# Altium schematic symbol library ARCOM_Capacitors.SchLib: 225 symbols (part 3 of 4)
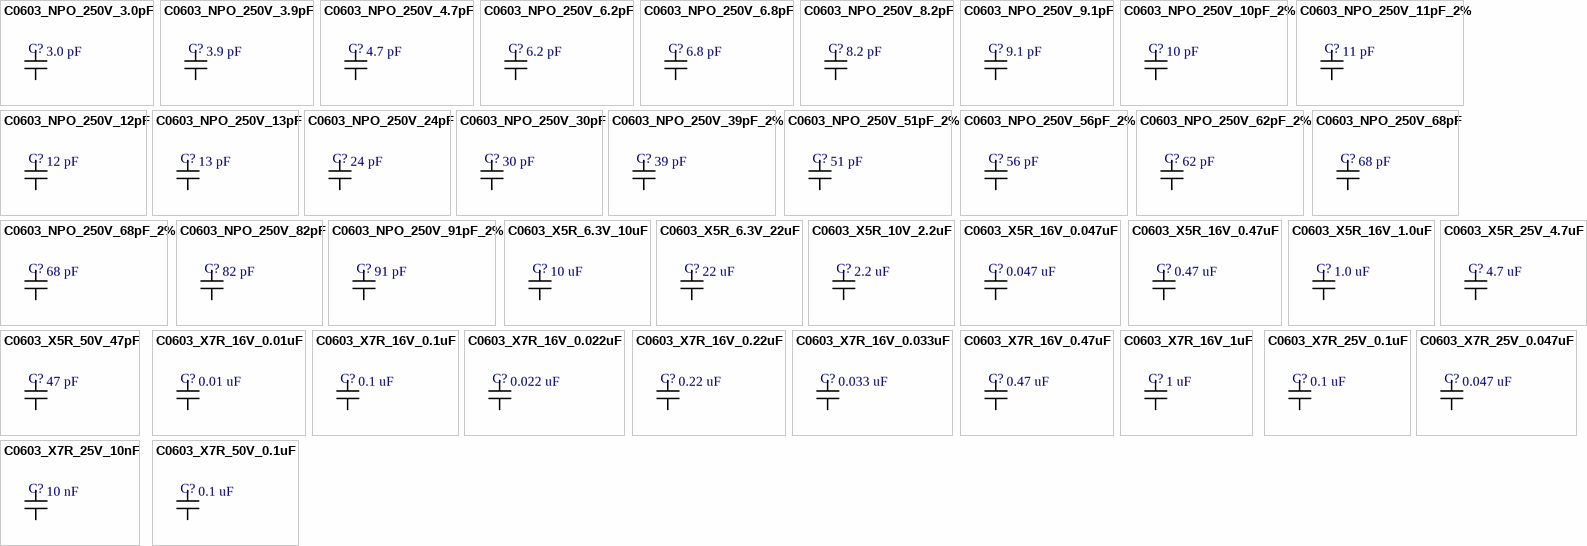
[diagram p7: symbols C0603_NPO_250V_3.0pF to C0603_X7R_50V_0.1uF]

## C0603_NPO_250V_13pF
designator C?  value 13 pF  (hidden comment: C0603_NPO_250V_13pF)
Ceramic Capacitor 0603 Size; Manufacturer: JOHANSON DIELECTRICS; Manufacturer P/N: 251R14S130GV4T; Part: 13 pF, NPO, 250V, 2%tol.; ComponentLink2URL: http://www.mouser.com/ds/2/611/JDI-Tanceram-516226.pdf; ComponentLink2Description: Datasheet; ComponentLink1Description: Manufacturer; ComponentLink1URL: http://www.johansondielectrics.com/; ComponentLink3Description: Datasheet2; Family: Capacitor
footprint C0603_L (Chip Capacitor, Body 1.6x0.8mm, Height 1.0mm, IPC High Density)
footprint C0603_M (Chip Capacitor, Body 1.6x0.8mm, Height 1.0mm, IPC Low Density)
footprint C0603_N (Chip Capacitor, Body 1.6x0.8mm, Height 1.0mm, IPC Medium Density)
pins: 1, 2

## C0603_NPO_250V_24pF
designator C?  value 24 pF  (hidden comment: C0603_NPO_250V_24pF)
Ceramic Capacitor 0603 Size 2%; Manufacturer: JOHANSON DIELECTRICS; Manufacturer P/N: 251R14S240GV4T; Part: 24 pF, NPO, 250V, 2% tol.; ComponentLink2URL: https://www2.mouser.com/datasheet/2/611/JTI-CAT-MLCC-HighQ-1101025.pdf; ComponentLink2Description: Datasheet; ComponentLink1Description: Manufacturer; ComponentLink1URL: http://www.johansondielectrics.com/; ComponentLink3Description: Datasheet2; Family: Capacitor
footprint C0603_L (Chip Capacitor, Body 1.6x0.8mm, Height 1.0mm, IPC High Density)
footprint C0603_M (Chip Capacitor, Body 1.6x0.8mm, Height 1.0mm, IPC Low Density)
footprint C0603_N (Chip Capacitor, Body 1.6x0.8mm, Height 1.0mm, IPC Medium Density)
pins: 1, 2

## C0603_NPO_250V_30pF
designator C?  value 30 pF  (hidden comment: C0603_NPO_250V_30pF)
Ceramic Capacitor 0603 Size 2%; Manufacturer: JOHANSON DIELECTRICS; Manufacturer P/N: 251R14S300GV4T; Part: 30 pF, NPO, 250V, 2% tol.; ComponentLink2URL: https://www2.mouser.com/datasheet/2/611/JTI-CAT-MLCC-HighQ-1101025.pdf; ComponentLink2Description: Datasheet; ComponentLink1Description: Manufacturer; ComponentLink1URL: http://www.johansondielectrics.com/; ComponentLink3Description: Datasheet2; Family: Capacitor
footprint C0603_L (Chip Capacitor, Body 1.6x0.8mm, Height 1.0mm, IPC High Density)
footprint C0603_M (Chip Capacitor, Body 1.6x0.8mm, Height 1.0mm, IPC Low Density)
footprint C0603_N (Chip Capacitor, Body 1.6x0.8mm, Height 1.0mm, IPC Medium Density)
pins: 1, 2

## C0603_NPO_250V_39pF_2%
designator C?  value 39 pF  (hidden comment: C0603_NPO_250V_39pF_2%)
Ceramic Capacitor 0603 Size 2%; Manufacturer: JOHANSON DIELECTRICS; Manufacturer P/N: 251R14S390GV4T; Part: 39 pF, NPO, 250V, 2% tol.; ComponentLink2URL: https://www2.mouser.com/datasheet/2/611/JTI-CAT-MLCC-HighQ-1101025.pdf; ComponentLink2Description: Datasheet; ComponentLink1Description: Manufacturer; ComponentLink1URL: http://www.johansondielectrics.com/; ComponentLink3Description: Datasheet2; Family: Capacitor
footprint C0603_L (Chip Capacitor, Body 1.6x0.8mm, Height 1.0mm, IPC High Density)
footprint C0603_M (Chip Capacitor, Body 1.6x0.8mm, Height 1.0mm, IPC Low Density)
footprint C0603_N (Chip Capacitor, Body 1.6x0.8mm, Height 1.0mm, IPC Medium Density)
pins: 1, 2

## C0603_NPO_250V_51pF_2%
designator C?  value 51 pF  (hidden comment: C0603_NPO_250V_51pF_2%)
Ceramic Capacitor 0603 Size 2%; Manufacturer: JOHANSON DIELECTRICS; Manufacturer P/N: 251R14S510GV4T; Part: 51 pF, NPO, 250V, 2% tol.; ComponentLink2URL: https://www2.mouser.com/datasheet/2/611/JTI-CAT-MLCC-HighQ-1101025.pdf; ComponentLink2Description: Datasheet; ComponentLink1Description: Manufacturer; ComponentLink1URL: http://www.johansondielectrics.com/; ComponentLink3Description: Datasheet2; Family: Capacitor
footprint C0603_L (Chip Capacitor, Body 1.6x0.8mm, Height 1.0mm, IPC High Density)
footprint C0603_M (Chip Capacitor, Body 1.6x0.8mm, Height 1.0mm, IPC Low Density)
footprint C0603_N (Chip Capacitor, Body 1.6x0.8mm, Height 1.0mm, IPC Medium Density)
pins: 1, 2

## C0603_NPO_250V_56pF_2%
designator C?  value 56 pF  (hidden comment: C0603_NPO_250V_56pF_2%)
Ceramic Capacitor 0603 Size 2%; Manufacturer: JOHANSON DIELECTRICS; Manufacturer P/N: 251R14S510GV4T; Part: 56 pF, NPO, 250V, 2% tol.; ComponentLink2URL: https://www2.mouser.com/datasheet/2/611/JTI-CAT-MLCC-HighQ-1101025.pdf; ComponentLink2Description: Datasheet; ComponentLink1Description: Manufacturer; ComponentLink1URL: http://www.johansondielectrics.com/; ComponentLink3Description: Datasheet2; Family: Capacitor
footprint C0603_L (Chip Capacitor, Body 1.6x0.8mm, Height 1.0mm, IPC High Density)
footprint C0603_M (Chip Capacitor, Body 1.6x0.8mm, Height 1.0mm, IPC Low Density)
footprint C0603_N (Chip Capacitor, Body 1.6x0.8mm, Height 1.0mm, IPC Medium Density)
pins: 1, 2

## C0603_NPO_250V_62pF_2%
designator C?  value 62 pF  (hidden comment: C0603_NPO_250V_62pF_2%)
Ceramic Capacitor 0603 Size 2%; Manufacturer: JOHANSON DIELECTRICS; Manufacturer P/N: 251R14S620GV4T; Part: 62 pF, NPO, 250V, 2% tol.; ComponentLink2URL: https://www2.mouser.com/datasheet/2/611/JTI-CAT-MLCC-HighQ-1101025.pdf; ComponentLink2Description: Datasheet; ComponentLink1Description: Manufacturer; ComponentLink1URL: http://www.johansondielectrics.com/; ComponentLink3Description: Datasheet2; Family: Capacitor
footprint C0603_L (Chip Capacitor, Body 1.6x0.8mm, Height 1.0mm, IPC High Density)
footprint C0603_M (Chip Capacitor, Body 1.6x0.8mm, Height 1.0mm, IPC Low Density)
footprint C0603_N (Chip Capacitor, Body 1.6x0.8mm, Height 1.0mm, IPC Medium Density)
pins: 1, 2

## C0603_NPO_250V_68pF
designator C?  value 68 pF  (hidden comment: C0603_NPO_250V_68pF)
GQM1875 Ceramic Capacitor 0603 Size; Manufacturer: Murata; Manufacturer P/N: GQM1875C2E680JB12D; Part: 68 pF, NPO, 250V, 5%tol.; ComponentLink2URL: https://ru.mouser.com/datasheet/2/281/murata_03122018_GCM_Series-1310150.pdf; ComponentLink2Description: Datasheet; ComponentLink1Description: Manufacturer; ComponentLink3Description: Datasheet2; Family: Capacitor
footprint C0603_L (Chip Capacitor, Body 1.6x0.8mm, Height 1.0mm, IPC High Density)
footprint C0603_M (Chip Capacitor, Body 1.6x0.8mm, Height 1.0mm, IPC Low Density)
footprint C0603_N (Chip Capacitor, Body 1.6x0.8mm, Height 1.0mm, IPC Medium Density)
pins: 1, 2

## C0603_NPO_250V_68pF_2%
designator C?, comment value 68 pF  (hidden comment: C0603_NPO_250V_68pF)
Ceramic Capacitor 0603 Size 2%; Manufacturer: JOHANSON DIELECTRICS; Manufacturer P/N: 251R14S680GV4T; Part: 68 pF, NPO, 250V, 2% tol.; ComponentLink2URL: https://www2.mouser.com/datasheet/2/611/JTI-CAT-MLCC-HighQ-1101025.pdf; ComponentLink2Description: Datasheet; ComponentLink1Description: Manufacturer; ComponentLink1URL: http://www.johansondielectrics.com/; ComponentLink3Description: Datasheet2; Family: Capacitor
footprint C0603_L (Chip Capacitor, Body 1.6x0.8mm, Height 1.0mm, IPC High Density)
footprint C0603_M (Chip Capacitor, Body 1.6x0.8mm, Height 1.0mm, IPC Low Density)
footprint C0603_N (Chip Capacitor, Body 1.6x0.8mm, Height 1.0mm, IPC Medium Density)
pins: 1, 2

## C0603_NPO_250V_82pF
designator C?  value 82 pF  (hidden comment: C0603_NPO_250V_82pF)
Ceramic Capacitor 0603 Size 250V; Manufacturer: JOHANSON DIELECTRICS; Manufacturer P/N: 251R14N820GV4T; Part: 82 pF, NPO, 100V, 2%tol.; ComponentLink2URL: http://www.mouser.com/ds/2/611/JDI-Tanceram-516226.pdf; ComponentLink2Description: Datasheet; ComponentLink1Description: Manufacturer; ComponentLink1URL: http://www.johansondielectrics.com/; ComponentLink3Description: Datasheet2; Family: Capacitor
footprint C0603_L (Chip Capacitor, Body 1.6x0.8mm, Height 1.0mm, IPC High Density)
footprint C0603_M (Chip Capacitor, Body 1.6x0.8mm, Height 1.0mm, IPC Low Density)
footprint C0603_N (Chip Capacitor, Body 1.6x0.8mm, Height 1.0mm, IPC Medium Density)
pins: 1, 2

## C0603_NPO_250V_91pF_2%
designator C?  value 91 pF  (hidden comment: C0603_NPO_250V_91pF_2%)
Ceramic Capacitor 0603 Size 2%; Manufacturer: JOHANSON DIELECTRICS; Manufacturer P/N: 251R14S910GV4T; Part: 91 pF, NPO, 250V, 2% tol.; ComponentLink2URL: https://www2.mouser.com/datasheet/2/611/JTI-CAT-MLCC-HighQ-1101025.pdf; ComponentLink2Description: Datasheet; ComponentLink1Description: Manufacturer; ComponentLink1URL: http://www.johansondielectrics.com/; ComponentLink3Description: Datasheet2; Family: Capacitor
footprint C0603_L (Chip Capacitor, Body 1.6x0.8mm, Height 1.0mm, IPC High Density)
footprint C0603_M (Chip Capacitor, Body 1.6x0.8mm, Height 1.0mm, IPC Low Density)
footprint C0603_N (Chip Capacitor, Body 1.6x0.8mm, Height 1.0mm, IPC Medium Density)
pins: 1, 2

## C0603_X5R_6.3V_10uF
designator C?  value 10 uF  (hidden comment: C0603_X5R_6.3V_10uF)
Ceramic Capacitor 0603 Size; Manufacturer: Murata; Manufacturer P/N: GRM188R60J106ME84D; Part: 10 uF, X5R, 6.3V, 20%tol.; ComponentLink2Description: Datasheet; ComponentLink1Description: Manufacturer; ComponentLink3Description: Datasheet2; Family: Capacitor
footprint C0603_L (Chip Capacitor, Body 1.6x0.8mm, Height 1.0mm, IPC High Density)
footprint C0603_M (Chip Capacitor, Body 1.6x0.8mm, Height 1.0mm, IPC Low Density)
footprint C0603_N (Chip Capacitor, Body 1.6x0.8mm, Height 1.0mm, IPC Medium Density)
pins: 1, 2

## C0603_X5R_6.3V_22uF
designator C?  value 22 uF  (hidden comment: C0603_X5R_6.3V_22uF)
Ceramic Capacitor 0603 Size; Manufacturer: Murata; Manufacturer P/N: GRM188R60J226MEA0D; Part: 22 uF, X5R, 6.3V, 20%tol.; ComponentLink2Description: Datasheet; ComponentLink1Description: Manufacturer; ComponentLink3Description: Datasheet2; Family: Capacitor
footprint C0603_L (Chip Capacitor, Body 1.6x0.8mm, Height 1.0mm, IPC High Density)
footprint C0603_M (Chip Capacitor, Body 1.6x0.8mm, Height 1.0mm, IPC Low Density)
footprint C0603_N (Chip Capacitor, Body 1.6x0.8mm, Height 1.0mm, IPC Medium Density)
pins: 1, 2

## C0603_X5R_10V_2.2uF
designator C?  value 2.2 uF  (hidden comment: C0603_X5R_10V_2.2uF)
Ceramic Capacitor 0603 Size; Manufacturer: JOHANSON DIELECTRICS; Manufacturer P/N: 100R14X225KV4T; Part: 2.2 uF, X5R, 10V, 10%tol.; ComponentLink2URL: http://www.mouser.com/ds/2/611/JDI-Tanceram-516226.pdf; ComponentLink2Description: Datasheet; ComponentLink1Description: Manufacturer; ComponentLink1URL: http://www.johansondielectrics.com/; ComponentLink3Description: Datasheet2; Family: Capacitor
footprint C0603_L (Chip Capacitor, Body 1.6x0.8mm, Height 1.0mm, IPC High Density)
footprint C0603_M (Chip Capacitor, Body 1.6x0.8mm, Height 1.0mm, IPC Low Density)
footprint C0603_N (Chip Capacitor, Body 1.6x0.8mm, Height 1.0mm, IPC Medium Density)
pins: 1, 2

## C0603_X5R_16V_0.047uF
designator C?  value 0.047 uF  (hidden comment: C0603_X5R_16V_0.047uF)
Ceramic Capacitor 0603 Size; Manufacturer: JOHANSON DIELECTRICS; Manufacturer P/N: 250R14W473JV4T; Part: 0.047 uF, X7R, 25V, 5%tol.; ComponentLink2URL: http://www.mouser.com/ds/2/611/JDI-Tanceram-516226.pdf; ComponentLink2Description: Datasheet; ComponentLink1Description: Manufacturer; ComponentLink1URL: http://www.johansondielectrics.com/; ComponentLink3Description: Datasheet2; Family: Capacitor
footprint C0603_L (Chip Capacitor, Body 1.6x0.8mm, Height 1.0mm, IPC High Density)
footprint C0603_M (Chip Capacitor, Body 1.6x0.8mm, Height 1.0mm, IPC Low Density)
footprint C0603_N (Chip Capacitor, Body 1.6x0.8mm, Height 1.0mm, IPC Medium Density)
pins: 1, 2

## C0603_X5R_16V_0.47uF
designator C?  value 0.47 uF  (hidden comment: C0603_X5R_16V_0.47uF)
Ceramic Capacitor 0603 Size; Manufacturer: JOHANSON DIELECTRICS; Manufacturer P/N: 160R14X474KV4T; Part: 0.47 uF, X5R, 16V, 10%tol.; ComponentLink2URL: http://www.mouser.com/ds/2/611/JDI-Tanceram-516226.pdf; ComponentLink2Description: Datasheet; ComponentLink1Description: Manufacturer; ComponentLink1URL: http://www.johansondielectrics.com/; ComponentLink3Description: Datasheet2; Family: Capacitor
footprint C0603_L (Chip Capacitor, Body 1.6x0.8mm, Height 1.0mm, IPC High Density)
footprint C0603_M (Chip Capacitor, Body 1.6x0.8mm, Height 1.0mm, IPC Low Density)
footprint C0603_N (Chip Capacitor, Body 1.6x0.8mm, Height 1.0mm, IPC Medium Density)
pins: 1, 2

## C0603_X5R_16V_1.0uF
designator C?  value 1.0 uF  (hidden comment: C0603_X5R_16V_1.0uF)
Ceramic Capacitor 0603 Size; Manufacturer: JOHANSON DIELECTRICS; Manufacturer P/N: 160R14X105KV4T; Part: 1.0 uF, X5R, 16V, 10%tol.; ComponentLink2URL: http://www.mouser.com/ds/2/611/JDI-Tanceram-516226.pdf; ComponentLink2Description: Datasheet; ComponentLink1Description: Manufacturer; ComponentLink1URL: http://www.johansondielectrics.com/; ComponentLink3Description: Datasheet2; Family: Capacitor
footprint C0603_L (Chip Capacitor, Body 1.6x0.8mm, Height 1.0mm, IPC High Density)
footprint C0603_M (Chip Capacitor, Body 1.6x0.8mm, Height 1.0mm, IPC Low Density)
footprint C0603_N (Chip Capacitor, Body 1.6x0.8mm, Height 1.0mm, IPC Medium Density)
pins: 1, 2

## C0603_X5R_25V_4.7uF
designator C?  value 4.7 uF  (hidden comment: C0603_X5R_25V_4.7uF)
Ceramic Capacitor 0603 Size; Manufacturer: JOHANSON DIELECTRICS; Manufacturer P/N: 250R14X475KV4T; Part: 4.7 uF, X5R, 25V, 10%tol.; ComponentLink2URL: http://www.mouser.com/ds/2/611/JDI-Tanceram-516226.pdf; ComponentLink2Description: Datasheet; ComponentLink1Description: Manufacturer; ComponentLink1URL: http://www.johansondielectrics.com/; ComponentLink3Description: Datasheet2; Family: Capacitor
footprint C0603_L (Chip Capacitor, Body 1.6x0.8mm, Height 1.0mm, IPC High Density)
footprint C0603_M (Chip Capacitor, Body 1.6x0.8mm, Height 1.0mm, IPC Low Density)
footprint C0603_N (Chip Capacitor, Body 1.6x0.8mm, Height 1.0mm, IPC Medium Density)
pins: 1, 2

## C0603_X5R_50V_47pF
designator C?  value 47 pF  (hidden comment: C0603_X5R_50V_47pF)
Ceramic Capacitor 0603 Size; Manufacturer: JOHANSON DIELECTRICS; Manufacturer P/N: 50R14N470KV4T; Part: 47 pF, NPO, 50V, 10%tol.; ComponentLink2URL: http://www.mouser.com/ds/2/611/JDI-Tanceram-516226.pdf; ComponentLink2Description: Datasheet; ComponentLink1Description: Manufacturer; ComponentLink1URL: http://www.johansondielectrics.com/; ComponentLink3Description: Datasheet2; Family: Capacitor
footprint C0603_L (Chip Capacitor, Body 1.6x0.8mm, Height 1.0mm, IPC High Density)
footprint C0603_M (Chip Capacitor, Body 1.6x0.8mm, Height 1.0mm, IPC Low Density)
footprint C0603_N (Chip Capacitor, Body 1.6x0.8mm, Height 1.0mm, IPC Medium Density)
pins: 1, 2

## C0603_X7R_16V_0.01uF
designator C?  value 0.01 uF  (hidden comment: C0603_X7R_16V_0.01uF)
Ceramic Capacitor 0603 Size; Manufacturer: JOHANSON DIELECTRICS; Manufacturer P/N: 160R14W103KV4T; Part: 0.01 uF, X7R, 16V, 10%tol.; ComponentLink2URL: http://www.mouser.com/ds/2/611/JDI-Tanceram-516226.pdf; ComponentLink2Description: Datasheet; ComponentLink1Description: Manufacturer; ComponentLink1URL: http://www.johansondielectrics.com/; ComponentLink3Description: Datasheet2; Family: Capacitor
footprint C0603_L (Chip Capacitor, Body 1.6x0.8mm, Height 1.0mm, IPC High Density)
footprint C0603_M (Chip Capacitor, Body 1.6x0.8mm, Height 1.0mm, IPC Low Density)
footprint C0603_N (Chip Capacitor, Body 1.6x0.8mm, Height 1.0mm, IPC Medium Density)
pins: 1, 2

## C0603_X7R_16V_0.1uF
designator C?  value 0.1 uF  (hidden comment: C0603_X7R_16V_0.1uF)
Obsolete; Manufacturer: JOHANSON DIELECTRICS; Manufacturer P/N: 160R14W104KV4T; Part: 0.1 uF, X7R, 16V, 10%tol.; ComponentLink2URL: http://www.mouser.com/ds/2/611/JDI-Tanceram-516226.pdf; ComponentLink2Description: Datasheet; ComponentLink1Description: Manufacturer; ComponentLink1URL: http://www.johansondielectrics.com/; ComponentLink3Description: Datasheet2; Family: Capacitor; Lifecycle: Obsolete
footprint C0603_L (Chip Capacitor, Body 1.6x0.8mm, Height 1.0mm, IPC High Density)
footprint C0603_M (Chip Capacitor, Body 1.6x0.8mm, Height 1.0mm, IPC Low Density)
footprint C0603_N (Chip Capacitor, Body 1.6x0.8mm, Height 1.0mm, IPC Medium Density)
pins: 1, 2

## C0603_X7R_16V_0.022uF
designator C?  value 0.022 uF  (hidden comment: C0603_X7R_16V_0.022uF)
Ceramic Capacitor 0603 Size; Manufacturer: JOHANSON DIELECTRICS; Manufacturer P/N: 160R14W223KV4T; Part: 0.022 uF, X7R, 16V, 10%tol.; ComponentLink2URL: http://www.mouser.com/ds/2/611/JDI-Tanceram-516226.pdf; ComponentLink2Description: Datasheet; ComponentLink1Description: Manufacturer; ComponentLink1URL: http://www.johansondielectrics.com/; ComponentLink3Description: Datasheet2; Family: Capacitor
footprint C0603_L (Chip Capacitor, Body 1.6x0.8mm, Height 1.0mm, IPC High Density)
footprint C0603_M (Chip Capacitor, Body 1.6x0.8mm, Height 1.0mm, IPC Low Density)
footprint C0603_N (Chip Capacitor, Body 1.6x0.8mm, Height 1.0mm, IPC Medium Density)
pins: 1, 2

## C0603_X7R_16V_0.22uF
designator C?  value 0.22 uF  (hidden comment: C0603_X7R_16V_0.22uF)
Ceramic Capacitor 0603 Size; Manufacturer: JOHANSON DIELECTRICS; Manufacturer P/N: 160R14W224KV4T; Part: 0.22 uF, X7R, 16V, 10%tol.; ComponentLink2URL: http://www.mouser.com/ds/2/611/JDI-Tanceram-516226.pdf; ComponentLink2Description: Datasheet; ComponentLink1Description: Manufacturer; ComponentLink1URL: http://www.johansondielectrics.com/; ComponentLink3Description: Datasheet2; Family: Capacitor
footprint C0603_L (Chip Capacitor, Body 1.6x0.8mm, Height 1.0mm, IPC High Density)
footprint C0603_M (Chip Capacitor, Body 1.6x0.8mm, Height 1.0mm, IPC Low Density)
footprint C0603_N (Chip Capacitor, Body 1.6x0.8mm, Height 1.0mm, IPC Medium Density)
pins: 1, 2

## C0603_X7R_16V_0.033uF
designator C?  value 0.033 uF  (hidden comment: C0603_X7R_16V_0.033uF)
Ceramic Capacitor 0603 Size; Manufacturer: JOHANSON DIELECTRICS; Manufacturer P/N: 160R14W333KV4T; Part: 0.033 uF, X7R, 16V, 10%tol.; ComponentLink2URL: http://www.mouser.com/ds/2/611/JDI-Tanceram-516226.pdf; ComponentLink2Description: Datasheet; ComponentLink1Description: Manufacturer; ComponentLink1URL: http://www.johansondielectrics.com/; ComponentLink3Description: Datasheet2; Family: Capacitor
footprint C0603_L (Chip Capacitor, Body 1.6x0.8mm, Height 1.0mm, IPC High Density)
footprint C0603_M (Chip Capacitor, Body 1.6x0.8mm, Height 1.0mm, IPC Low Density)
footprint C0603_N (Chip Capacitor, Body 1.6x0.8mm, Height 1.0mm, IPC Medium Density)
pins: 1, 2

## C0603_X7R_16V_0.47uF
designator C?  value 0.47 uF  (hidden comment: C0603_X7R_16V_0.47uF)
Ceramic Capacitor 0603 Size; Manufacturer: JOHANSON DIELECTRICS; Manufacturer P/N: 160R14W474KV4T; Part: 0.47 uF, X7R, 16V, 10%tol.; ComponentLink2URL: http://www.mouser.com/ds/2/611/JDI-Tanceram-516226.pdf; ComponentLink2Description: Datasheet; ComponentLink1Description: Manufacturer; ComponentLink1URL: http://www.johansondielectrics.com/; ComponentLink3Description: Datasheet2; Family: Capacitor
footprint C0603_L (Chip Capacitor, Body 1.6x0.8mm, Height 1.0mm, IPC High Density)
footprint C0603_M (Chip Capacitor, Body 1.6x0.8mm, Height 1.0mm, IPC Low Density)
footprint C0603_N (Chip Capacitor, Body 1.6x0.8mm, Height 1.0mm, IPC Medium Density)
pins: 1, 2

## C0603_X7R_16V_1uF
designator C?  value 1 uF  (hidden comment: C0603_X7R_16V_1uF)
Ceramic Capacitor 0603 Size; Manufacturer: JOHANSON DIELECTRICS; Manufacturer P/N: 160R14W105KV4T; Part: 1.0 uF, X7R, 16V, 10%tol.; ComponentLink2URL: http://www.mouser.com/ds/2/611/JDI-Tanceram-516226.pdf; ComponentLink2Description: Datasheet; ComponentLink1Description: Manufacturer; ComponentLink1URL: http://www.johansondielectrics.com/; ComponentLink3Description: Datasheet2; Family: Capacitor
footprint C0603_L (Chip Capacitor, Body 1.6x0.8mm, Height 1.0mm, IPC High Density)
footprint C0603_M (Chip Capacitor, Body 1.6x0.8mm, Height 1.0mm, IPC Low Density)
footprint C0603_N (Chip Capacitor, Body 1.6x0.8mm, Height 1.0mm, IPC Medium Density)
pins: 1, 2

## C0603_X7R_25V_0.1uF
designator C?  value 0.1 uF  (hidden comment: C0603_X7R_25V_0.1uF)
Obsolete; Manufacturer: Johanson Dielectric; Manufacturer P/N: 250R14W104KV4T; Part: 0.1 uF, X7R, 25V, 10%tol.; ComponentLink2URL: https://www.mouser.com/datasheet/2/611/jdi-surface-mount-1062145.pdf; ComponentLink2Description: Datasheet; ComponentLink1Description: Manufacturer; ComponentLink1URL: http://www.johansondielectrics.com/; ComponentLink3Description: Datasheet2; Family: Capacitor
footprint C0603_L (Chip Capacitor, Body 1.6x0.8mm, Height 1.0mm, IPC High Density)
footprint C0603_M (Chip Capacitor, Body 1.6x0.8mm, Height 1.0mm, IPC Low Density)
footprint C0603_N (Chip Capacitor, Body 1.6x0.8mm, Height 1.0mm, IPC Medium Density)
pins: 1, 2

## C0603_X7R_25V_0.047uF
designator C?  value 0.047 uF  (hidden comment: C0603_X7R_25V_0.047uF)
Ceramic Capacitor 0603 Size; Manufacturer: JOHANSON DIELECTRICS; Manufacturer P/N: 250R14W473JV4T; Part: 0.047 uF, X7R, 25V, 5%tol.; ComponentLink2URL: http://www.mouser.com/ds/2/611/JDI-Tanceram-516226.pdf; ComponentLink2Description: Datasheet; ComponentLink1Description: Manufacturer; ComponentLink1URL: http://www.johansondielectrics.com/; ComponentLink3Description: Datasheet2; Family: Capacitor
footprint C0603_L (Chip Capacitor, Body 1.6x0.8mm, Height 1.0mm, IPC High Density)
footprint C0603_M (Chip Capacitor, Body 1.6x0.8mm, Height 1.0mm, IPC Low Density)
footprint C0603_N (Chip Capacitor, Body 1.6x0.8mm, Height 1.0mm, IPC Medium Density)
pins: 1, 2

## C0603_X7R_25V_10nF
designator C?  value 10 nF  (hidden comment: C0603_X7R_25V_10nF)
Ceramic Capacitor 0603 Size; Manufacturer: JOHANSON DIELECTRICS; Manufacturer P/N: 250R14W103JV4T; Part: 10 nF, X7R, 25V, 5%tol.; ComponentLink2URL: http://www.mouser.com/ds/2/611/JDI-Tanceram-516226.pdf; ComponentLink2Description: Datasheet; ComponentLink1Description: Manufacturer; ComponentLink1URL: http://www.johansondielectrics.com/; ComponentLink3Description: Datasheet2; Family: Capacitor
footprint C0603_L (Chip Capacitor, Body 1.6x0.8mm, Height 1.0mm, IPC High Density)
footprint C0603_M (Chip Capacitor, Body 1.6x0.8mm, Height 1.0mm, IPC Low Density)
footprint C0603_N (Chip Capacitor, Body 1.6x0.8mm, Height 1.0mm, IPC Medium Density)
pins: 1, 2

## C0603_X7R_50V_0.1uF
designator C?  value 0.1 uF  (hidden comment: C0603_X7R_50V_0.1uF)
Multilayer Ceramic Capacitors MLCC - SMD/SMT 100nF+/-10% 50V X7R 0603; Manufacturer: Samsung Electro-Mechanics; Manufacturer P/N: CL10B104KB8NNWC; Part: 0.1 uF, X7R, 50V, 10%tol.; ComponentLink2URL: https://www.mouser.com/datasheet/2/585/MLCC-1837944.pdf; ComponentLink2Description: Datasheet; ComponentLink1Description: Manufacturer; ComponentLink1URL: https://www.samsungsem.com/global/index.do; ComponentLink3Description: Datasheet2; Family: Capacitor
footprint C0603_L (Chip Capacitor, Body 1.6x0.8mm, Height 1.0mm, IPC High Density)
footprint C0603_M (Chip Capacitor, Body 1.6x0.8mm, Height 1.0mm, IPC Low Density)
footprint C0603_N (Chip Capacitor, Body 1.6x0.8mm, Height 1.0mm, IPC Medium Density)
pins: 1, 2

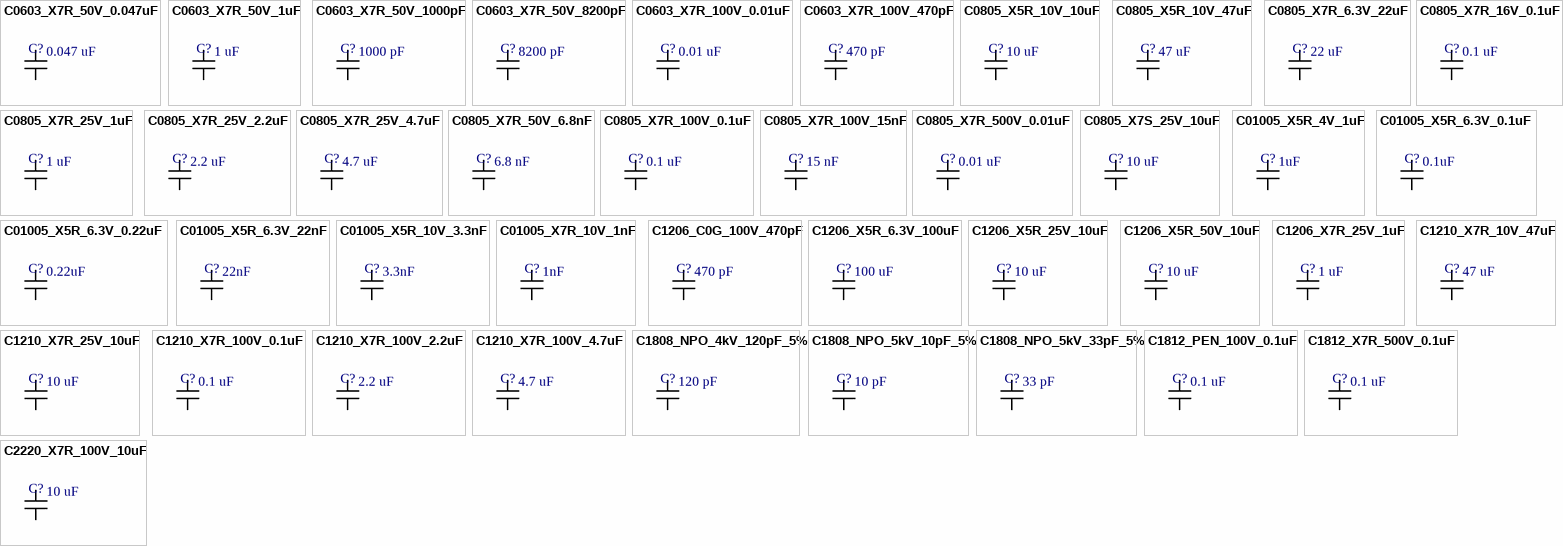
[diagram p4: symbols C0603_X7R_50V_0.047uF to C2220_X7R_100V_10uF]

## C0603_X7R_50V_0.047uF
designator C?  value 0.047 uF  (hidden comment: C0603_X7R_50V_0.047uF)
Ceramic Capacitor 0603 Size; Manufacturer: JOHANSON DIELECTRICS; Manufacturer P/N: 500R14W473KV4T; Part: 0.047 uF, X7R, 50V, 10%tol.; ComponentLink2URL: http://www.mouser.com/ds/2/611/JDI-Tanceram-516226.pdf; ComponentLink2Description: Datasheet; ComponentLink1Description: Manufacturer; ComponentLink1URL: http://www.johansondielectrics.com/; ComponentLink3Description: Datasheet2; Family: Capacitor
footprint C0603_L (Chip Capacitor, Body 1.6x0.8mm, Height 1.0mm, IPC High Density)
footprint C0603_M (Chip Capacitor, Body 1.6x0.8mm, Height 1.0mm, IPC Low Density)
footprint C0603_N (Chip Capacitor, Body 1.6x0.8mm, Height 1.0mm, IPC Medium Density)
pins: 1, 2

## C0603_X7R_50V_1uF
designator C?  value 1 uF  (hidden comment: C0603_X7R_50V_1uF)
Ceramic Capacitor 0603 Size; Manufacturer: Cal-Chip; Manufacturer P/N: GMC10X7R105K50NT; Part: 1.0 uF, X7R, 50V, 10%tol.; ComponentLink2URL: http://www.calchipelectronics.com/pdf/gmc_series.pdf; ComponentLink2Description: Datasheet; ComponentLink1Description: Manufacturer; ComponentLink1URL: http://www.calchipelectronics.com; ComponentLink3Description: Datasheet2; Family: Capacitor
footprint C0603_L (Chip Capacitor, Body 1.6x0.8mm, Height 1.0mm, IPC High Density)
footprint C0603_M (Chip Capacitor, Body 1.6x0.8mm, Height 1.0mm, IPC Low Density)
footprint C0603_N (Chip Capacitor, Body 1.6x0.8mm, Height 1.0mm, IPC Medium Density)
pins: 1, 2

## C0603_X7R_50V_1000pF
designator C?  value 1000 pF  (hidden comment: C0603_X7R_50V_1000pF)
Ceramic Capacitor 0603 Size; Manufacturer: JOHANSON DIELECTRICS; Manufacturer P/N: 500R14W102KV4T; Part: 1000 pF, X7R, 50V, 10%tol.; ComponentLink2URL: http://www.mouser.com/ds/2/611/JDI-Tanceram-516226.pdf; ComponentLink2Description: Datasheet; ComponentLink1Description: Manufacturer; ComponentLink1URL: http://www.johansondielectrics.com/; ComponentLink3Description: Datasheet2; Family: Capacitor
footprint C0603_L (Chip Capacitor, Body 1.6x0.8mm, Height 1.0mm, IPC High Density)
footprint C0603_M (Chip Capacitor, Body 1.6x0.8mm, Height 1.0mm, IPC Low Density)
footprint C0603_N (Chip Capacitor, Body 1.6x0.8mm, Height 1.0mm, IPC Medium Density)
pins: 1, 2

## C0603_X7R_50V_8200pF
designator C?  value 8200 pF  (hidden comment: C0603_X7R_50V_8200pF)
Ceramic Capacitor 0603 Size; Manufacturer: JOHANSON DIELECTRICS; Manufacturer P/N: 500R14W822KV4T; Part: 8200 pF, X7R, 16V, 10%tol.; ComponentLink2URL: http://www.mouser.com/ds/2/611/JDI-Tanceram-516226.pdf; ComponentLink2Description: Datasheet; ComponentLink1Description: Manufacturer; ComponentLink1URL: http://www.johansondielectrics.com/; ComponentLink3Description: Datasheet2; Family: Capacitor
footprint C0603_L (Chip Capacitor, Body 1.6x0.8mm, Height 1.0mm, IPC High Density)
footprint C0603_M (Chip Capacitor, Body 1.6x0.8mm, Height 1.0mm, IPC Low Density)
footprint C0603_N (Chip Capacitor, Body 1.6x0.8mm, Height 1.0mm, IPC Medium Density)
pins: 1, 2

## C0603_X7R_100V_0.01uF
designator C?  value 0.01 uF  (hidden comment: C0603_X7R_100V_0.01uF)
Ceramic Capacitor 0603 Size; Manufacturer: JOHANSON DIELECTRICS; Manufacturer P/N: 101R14W103KV4T; Part: 0.01uF, X7R, 100V, 10%tol.; ComponentLink2URL: http://www.mouser.com/ds/2/611/JDI-Tanceram-516226.pdf; ComponentLink2Description: Datasheet; ComponentLink1Description: Manufacturer; ComponentLink1URL: http://www.johansondielectrics.com/; ComponentLink3Description: Datasheet2; Family: Capacitor
footprint C0603_L (Chip Capacitor, Body 1.6x0.8mm, Height 1.0mm, IPC High Density)
footprint C0603_M (Chip Capacitor, Body 1.6x0.8mm, Height 1.0mm, IPC Low Density)
footprint C0603_N (Chip Capacitor, Body 1.6x0.8mm, Height 1.0mm, IPC Medium Density)
pins: 1, 2

## C0603_X7R_100V_470pF
designator C?  value 470 pF  (hidden comment: C0603_X7R_100V_470pF)
Ceramic Capacitor 0603 Size; Manufacturer: JOHANSON DIELECTRICS; Manufacturer P/N: 101R14W471KV4T; Part: 470 pF, X7R, 100V, 10%tol.; ComponentLink2URL: http://www.mouser.com/ds/2/611/JDI-Tanceram-516226.pdf; ComponentLink2Description: Datasheet; ComponentLink1Description: Manufacturer; ComponentLink1URL: http://www.johansondielectrics.com/; ComponentLink3Description: Datasheet2; Family: Capacitor
footprint C0603_L (Chip Capacitor, Body 1.6x0.8mm, Height 1.0mm, IPC High Density)
footprint C0603_M (Chip Capacitor, Body 1.6x0.8mm, Height 1.0mm, IPC Low Density)
footprint C0603_N (Chip Capacitor, Body 1.6x0.8mm, Height 1.0mm, IPC Medium Density)
pins: 1, 2

## C0805_X5R_10V_10uF
designator C?  value 10 uF  (hidden comment: C0805_X5R_10V_10uF)
Ceramic Capacitor 0805 Size; Manufacturer: JOHANSON DIELECTRICS; Manufacturer P/N: 100R15X106KV4T; Part: 10.0 uF, X5R, 10V, 10%tol.; ComponentLink2URL: http://www.mouser.com/ds/2/611/JDI-Tanceram-516226.pdf; ComponentLink2Description: Datasheet; ComponentLink1Description: Manufacturer; ComponentLink1URL: http://www.johansondielectrics.com/; ComponentLink3Description: Datasheet2; Family: Capacitor
footprint C0805_L (Chip Capacitor, Body 2.0x1.2mm, Height 1.0mm, IPC High Density)
footprint C0805_M (Chip Capacitor, Body 2.0x1.2mm, Height 1.0mm, IPC Low Density)
footprint C0805_N (Chip Capacitor, Body 2.0x1.2mm, Height 1.0mm, IPC Medium Density)
pins: 1, 2

## C0805_X5R_10V_47uF
designator C?  value 47 uF  (hidden comment: C0805_X5R_10V_47uF)
Ceramic Capacitor 0805 Size; Manufacturer: Murata; Manufacturer P/N: GRM21BR61A476ME15L; Part: 47.0 uF, X5R, 10V, 20%tol.; ComponentLink2Description: Datasheet; ComponentLink1Description: Manufacturer; ComponentLink3Description: Datasheet2; Family: Capacitor
footprint C0805_L (Chip Capacitor, Body 2.0x1.2mm, Height 1.0mm, IPC High Density)
footprint C0805_M (Chip Capacitor, Body 2.0x1.2mm, Height 1.0mm, IPC Low Density)
footprint C0805_N (Chip Capacitor, Body 2.0x1.2mm, Height 1.0mm, IPC Medium Density)
pins: 1, 2

## C0805_X7R_6.3V_22uF
designator C?  value 22 uF  (hidden comment: C0805_X7R_6.3V_22uF)
Ceramic Capacitor 0805 Size; Manufacturer: Johanson; Manufacturer P/N: 6R3R15X226KV4T; Part: 22 uF, X5R, 6.3V, 10%tol.; ComponentLink2Description: Datasheet; ComponentLink1Description: Manufacturer; ComponentLink3Description: Datasheet2; Family: Capacitor
footprint C0805_L (Chip Capacitor, Body 2.0x1.2mm, Height 1.0mm, IPC High Density)
footprint C0805_M (Chip Capacitor, Body 2.0x1.2mm, Height 1.0mm, IPC Low Density)
footprint C0805_N (Chip Capacitor, Body 2.0x1.2mm, Height 1.0mm, IPC Medium Density)
pins: 1, 2

## C0805_X7R_16V_0.1uF
designator C?  value 0.1 uF  (hidden comment: C0805_X7R_16V_0.1uF)
Ceramic Capacitor 0805 Size; Manufacturer: Johanson Dielectric; Manufacturer P/N: 160R15W104KV4T; Part: 0.1 uF, X7R, 16V, 10%tol.; ComponentLink2Description: Datasheet; ComponentLink1Description: Manufacturer; ComponentLink3Description: Datasheet2; Family: Capacitor
footprint C0805_L (Chip Capacitor, Body 2.0x1.2mm, Height 1.0mm, IPC High Density)
footprint C0805_M (Chip Capacitor, Body 2.0x1.2mm, Height 1.0mm, IPC Low Density)
footprint C0805_N (Chip Capacitor, Body 2.0x1.2mm, Height 1.0mm, IPC Medium Density)
pins: 1, 2

## C0805_X7R_25V_1uF
designator C?  value 1 uF  (hidden comment: C0805_X7R_25V_1uF)
Ceramic Capacitor 0805 Size; Manufacturer: AVX; Manufacturer P/N: 08053C105KAT2A; Part: 1 uF, X7R, 25V, 10%tol.; ComponentLink2URL: https://www.mouser.com/datasheet/2/40/X7RDielectric-777024.pdf; ComponentLink2Description: Datasheet; ComponentLink1Description: Manufacturer; ComponentLink1URL: https://www.avx.com/; ComponentLink3Description: Datasheet2; Family: Capacitor
footprint C0805_L (Chip Capacitor, Body 2.0x1.2mm, Height 1.0mm, IPC High Density)
footprint C0805_M (Chip Capacitor, Body 2.0x1.2mm, Height 1.0mm, IPC Low Density)
footprint C0805_N (Chip Capacitor, Body 2.0x1.2mm, Height 1.0mm, IPC Medium Density)
pins: 1, 2

## C0805_X7R_25V_2.2uF
designator C?  value 2.2 uF  (hidden comment: C0805_X7R_25V_2.2uF)
Ceramic Capacitor 0805 Size; Manufacturer: Kemet; Manufacturer P/N: C0805C225K3RACTU; Part: 2.2 uF, X7R, 25V, 10%tol.; ComponentLink2Description: Datasheet; ComponentLink1Description: Manufacturer; ComponentLink3Description: Datasheet2; Family: Capacitor
footprint C0805_L (Chip Capacitor, Body 2.0x1.2mm, Height 1.0mm, IPC High Density)
footprint C0805_M (Chip Capacitor, Body 2.0x1.2mm, Height 1.0mm, IPC Low Density)
footprint C0805_N (Chip Capacitor, Body 2.0x1.2mm, Height 1.0mm, IPC Medium Density)
pins: 1, 2

## C0805_X7R_25V_4.7uF
designator C?  value 4.7 uF  (hidden comment: C0805_X7R_25V_4.7uF)
Ceramic Capacitor 0805 Size; Manufacturer: AVX; Manufacturer P/N: 08053C475KAT2A; Part: 4.7 uF, X7R, 25V, 10%tol.; ComponentLink2URL: https://www.mouser.com/datasheet/2/40/X7RDielectric-777024.pdf; ComponentLink2Description: Datasheet; ComponentLink1Description: Manufacturer; ComponentLink1URL: https://www.avx.com/; ComponentLink3Description: Datasheet2; Family: Capacitor
footprint C0805_L (Chip Capacitor, Body 2.0x1.2mm, Height 1.0mm, IPC High Density)
footprint C0805_M (Chip Capacitor, Body 2.0x1.2mm, Height 1.0mm, IPC Low Density)
footprint C0805_N (Chip Capacitor, Body 2.0x1.2mm, Height 1.0mm, IPC Medium Density)
pins: 1, 2

## C0805_X7R_50V_6.8nF
designator C?  value 6.8 nF  (hidden comment: C0805_X7R_50V_6.8nF)
Ceramic Capacitor 0805 Size; Manufacturer: Yageo; Manufacturer P/N: CC0805KRX7R9BB682; Part: 6.8 nF, X7R, 50V, 10%tol.; ComponentLink2Description: Datasheet; ComponentLink1Description: Manufacturer; ComponentLink3Description: Datasheet2; Family: Capacitor
footprint C0805_L (Chip Capacitor, Body 2.0x1.2mm, Height 1.0mm, IPC High Density)
footprint C0805_M (Chip Capacitor, Body 2.0x1.2mm, Height 1.0mm, IPC Low Density)
footprint C0805_N (Chip Capacitor, Body 2.0x1.2mm, Height 1.0mm, IPC Medium Density)
pins: 1, 2

## C0805_X7R_100V_0.1uF
designator C?  value 0.1 uF  (hidden comment: C0805_X7R_100V_0.1uF)
Ceramic Capacitor 0805 Size; Manufacturer: AVX; Manufacturer P/N: 08051C104KAT2A; Part: 0.1 uF, X7R, 100V, 10%tol.; ComponentLink2URL: https://www.mouser.com/datasheet/2/40/X7RDielectric-777024.pdf; ComponentLink2Description: Datasheet; ComponentLink1Description: Manufacturer; ComponentLink1URL: https://www.avx.com/; ComponentLink3Description: Datasheet2; Family: Capacitor
footprint C0805_L (Chip Capacitor, Body 2.0x1.2mm, Height 1.0mm, IPC High Density)
footprint C0805_M (Chip Capacitor, Body 2.0x1.2mm, Height 1.0mm, IPC Low Density)
footprint C0805_N (Chip Capacitor, Body 2.0x1.2mm, Height 1.0mm, IPC Medium Density)
pins: 1, 2

## C0805_X7R_100V_15nF
designator C?  value 15 nF  (hidden comment: C0805_X7R_100V_15nF)
Ceramic Capacitor 0805 Size; Manufacturer: JOHANSON DIELECTRICS; Manufacturer P/N: 101R15W153MV4T; Part: 15 nF, X7R, 100V, 20%tol.; ComponentLink2Description: Datasheet; ComponentLink1Description: Manufacturer; ComponentLink3Description: Datasheet2; Family: Capacitor
footprint C0805_L (Chip Capacitor, Body 2.0x1.2mm, Height 1.0mm, IPC High Density)
footprint C0805_M (Chip Capacitor, Body 2.0x1.2mm, Height 1.0mm, IPC Low Density)
footprint C0805_N (Chip Capacitor, Body 2.0x1.2mm, Height 1.0mm, IPC Medium Density)
pins: 1, 2

## C0805_X7R_500V_0.01uF
designator C?  value 0.01 uF  (hidden comment: C0805_X7R_500V_0.01uF)
Ceramic Capacitor 0805 Size; Manufacturer: Johanson Dielectric; Manufacturer P/N: 501R15W103KV4E; Part: 0.01 uF, X7R, 500V, 10%tol.; ComponentLink2URL: https://www.mouser.ca/datasheet/2/611/high_voltage_surface_mount_mlcc_250_6000vdc-1633745.pdf; ComponentLink2Description: Datasheet; ComponentLink1Description: Manufacturer; ComponentLink1URL: https://www.johansondielectrics.com/; ComponentLink3Description: Datasheet2; Family: Capacitor
footprint C0805_L (Chip Capacitor, Body 2.0x1.2mm, Height 1.0mm, IPC High Density)
footprint C0805_M (Chip Capacitor, Body 2.0x1.2mm, Height 1.0mm, IPC Low Density)
footprint C0805_N (Chip Capacitor, Body 2.0x1.2mm, Height 1.0mm, IPC Medium Density)
pins: 1, 2

## C0805_X7S_25V_10uF
designator C?  value 10 uF  (hidden comment: C0805_X7S_25V_10uF)
Ceramic Capacitor 0805 Size; Manufacturer: Murata; Manufacturer P/N: GRM21BC71E106KE01K; Part: 10.0 uF, X7S, 25V, 10%tol.; ComponentLink2URL: https://www.mouser.com/datasheet/2/281/1/GRM21BC71E106KE01_01A-3044309.pdf; ComponentLink2Description: Datasheet; ComponentLink1Description: Manufacturer; ComponentLink1URL: https://www.mouser.com/; ComponentLink3Description: Datasheet2; Family: Capacitor
footprint C0805_L (Chip Capacitor, Body 2.0x1.2mm, Height 1.0mm, IPC High Density)
footprint C0805_M (Chip Capacitor, Body 2.0x1.2mm, Height 1.0mm, IPC Low Density)
footprint C0805_N (Chip Capacitor, Body 2.0x1.2mm, Height 1.0mm, IPC Medium Density)
pins: 1, 2

## C01005_X5R_4V_1uF
designator C?  value 1uF  (hidden comment: C01005_X5R_4V_1uF)
Ceramic Capacitor 01005 Size; Manufacturer: Murata; Manufacturer P/N: GRM022R60G224KE14L; Part: 1 uF, X5R, 4V, 20%tol.; ComponentLink2Description: Datasheet; ComponentLink1Description: Manufacturer; ComponentLink3Description: Datasheet2; Family: Capacitor
footprint C01005_new (Chip Capacitor, 2-Leads, Body 0,40x0,20mm, IPC High Density)
pins: 1, 2

## C01005_X5R_6.3V_0.1uF
designator C?  value 0.1uF  (hidden comment: C01005_X5R_6.3V_0.1uF)
Ceramic Capacitor 01005 Size; Manufacturer: Murata; Manufacturer P/N: GRM022R60J104ME15L; Part: 0.1 uF, X5R, 6.3V, 20%tol.; ComponentLink2Description: Datasheet; ComponentLink1Description: Manufacturer; ComponentLink3Description: Datasheet2; Family: Capacitor
footprint C01005_new (Chip Capacitor, 2-Leads, Body 0,40x0,20mm, IPC High Density)
pins: 1, 2

## C01005_X5R_6.3V_0.22uF
designator C?  value 0.22uF  (hidden comment: C01005_X5R_6.3V_0.22uF)
Ceramic Capacitor 01005 Size; Manufacturer: Murata; Manufacturer P/N: GRM022R60J224KE14L; Part: 0.22 uF, X5R, 6.3V, 10%tol.; ComponentLink2Description: Datasheet; ComponentLink1Description: Manufacturer; ComponentLink3Description: Datasheet2; Family: Capacitor
footprint C01005_new (Chip Capacitor, 2-Leads, Body 0,40x0,20mm, IPC High Density)
pins: 1, 2

## C01005_X5R_6.3V_22nF
designator C?  value 22nF  (hidden comment: C01005_X5R_6.3V_22nF)
Ceramic Capacitor 01005 Size; Manufacturer: Murata; Manufacturer P/N: GRM022R60J223KE15L; Part: 22 nF, X5R, 6.3V, 10%tol.; ComponentLink2Description: Datasheet; ComponentLink1Description: Manufacturer; ComponentLink3Description: Datasheet2; Family: Capacitor
footprint C01005_new (Chip Capacitor, 2-Leads, Body 0,40x0,20mm, IPC High Density)
pins: 1, 2

## C01005_X5R_10V_3.3nF
designator C?  value 3.3nF  (hidden comment: C01005_X5R_10V_3.3nF)
Ceramic Capacitor 01005 Size; Manufacturer: Murata; Manufacturer P/N: GRM022B31A332ME19; Part: 3.3 nF, X5R, 10V, 20%tol.; ComponentLink2Description: Datasheet; ComponentLink1Description: Manufacturer; ComponentLink3Description: Datasheet2; Family: Capacitor
footprint C01005_new (Chip Capacitor, 2-Leads, Body 0,40x0,20mm, IPC High Density)
pins: 1, 2

## C01005_X7R_10V_1nF
designator C?  value 1nF  (hidden comment: C01005_X7R_10V_1nF)
Ceramic Capacitor 01005 Size; Manufacturer: Murata; Manufacturer P/N: GRM022R71A102KA12L; Part: 1 nF, X7R, 10V, 10%tol.; ComponentLink2Description: Datasheet; ComponentLink1Description: Manufacturer; ComponentLink3Description: Datasheet2; Family: Capacitor
footprint C01005_new (Chip Capacitor, 2-Leads, Body 0,40x0,20mm, IPC High Density)
pins: 1, 2

## C1206_C0G_100V_470pF
designator C?  value 470 pF  (hidden comment: C1206_C0G_100V_470pF)
Ceramic Capacitor 1206 Size; Manufacturer: Syfer; Manufacturer P/N: 1206J1000471JCT; Part: 470 pF, C0G, 100V, 5%tol.; ComponentLink2URL: http://www.mouser.com/ds/2/394/tandardMLCCDatasheet-369797.pdf; ComponentLink2Description: Datasheet; ComponentLink1Description: Manufacturer; ComponentLink3Description: Datasheet2; Family: Capacitor
footprint CAPC1206(3216)170_L (Chip Capacitor, Body 3.2x1.6mm, Height 1.7mm, IPC High Density)
footprint CAPC1206(3216)170_M (Chip Capacitor, Body 3.2x1.6mm, Height 1.7mm, IPC Low Density)
footprint CAPC1206(3216)170_N (Chip Capacitor, Body 3.2x1.6mm, Height 1.7mm, IPC Medium Density)
pins: 1, 2

## C1206_X5R_6.3V_100uF
designator C?  value 100 uF  (hidden comment: C1206_X5R_6.3V_100uF)
Ceramic Capacitor 1206 Size; Manufacturer: Murata; Manufacturer P/N: GRM31CR60J107ME39L; Part: 100.0 uF, X5R, 6.3V, 20%tol.; ComponentLink2Description: Datasheet; ComponentLink1Description: Manufacturer; ComponentLink3Description: Datasheet2; Family: Capacitor
footprint CAPC1206(3216)170_L (Chip Capacitor, Body 3.2x1.6mm, Height 1.7mm, IPC High Density)
footprint CAPC1206(3216)170_M (Chip Capacitor, Body 3.2x1.6mm, Height 1.7mm, IPC Low Density)
footprint CAPC1206(3216)170_N (Chip Capacitor, Body 3.2x1.6mm, Height 1.7mm, IPC Medium Density)
pins: 1, 2

## C1206_X5R_25V_10uF
designator C?  value 10 uF  (hidden comment: C1206_X5R_25V_10uF)
Ceramic Capacitor 1206 Size; Manufacturer: TDK; Manufacturer P/N: C3216X5R1E106M160AB; Part: 10.0 uF, X5R, 25V, 20%tol.; ComponentLink2URL: http://www.mouser.com/ds/2/400/lcc_commercial_general_en-837201.pdf; ComponentLink2Description: Datasheet; ComponentLink1Description: Manufacturer; ComponentLink1URL: https://product.tdk.com/info/en/products/capacitor/index.html; ComponentLink3Description: Datasheet2; Family: Capacitor
footprint CAPC1206(3216)170_L (Chip Capacitor, Body 3.2x1.6mm, Height 1.7mm, IPC High Density)
footprint CAPC1206(3216)170_M (Chip Capacitor, Body 3.2x1.6mm, Height 1.7mm, IPC Low Density)
footprint CAPC1206(3216)170_N (Chip Capacitor, Body 3.2x1.6mm, Height 1.7mm, IPC Medium Density)
pins: 1, 2

## C1206_X5R_50V_10uF
designator C?  value 10 uF  (hidden comment: C1206_X5R_50V_10uF)
Ceramic Capacitor 1206 Size; Manufacturer: Murata; Manufacturer P/N: GRM31CR61H106MA12L; Part: 10.0 uF, X5R, 50V, 20%tol.; ComponentLink2Description: Datasheet; ComponentLink1Description: Manufacturer; ComponentLink3Description: Datasheet2; Family: Capacitor
footprint CAPC1206(3216)170_L (Chip Capacitor, Body 3.2x1.6mm, Height 1.7mm, IPC High Density)
footprint CAPC1206(3216)170_M (Chip Capacitor, Body 3.2x1.6mm, Height 1.7mm, IPC Low Density)
footprint CAPC1206(3216)170_N (Chip Capacitor, Body 3.2x1.6mm, Height 1.7mm, IPC Medium Density)
pins: 1, 2

## C1206_X7R_25V_1uF
designator C?  value 1 uF  (hidden comment: C1206_X7R_25V_1uF)
Ceramic Capacitor 1206 Size; Manufacturer: Johanson Dielectric; Manufacturer P/N: 250R18W105KV4E; Part: 1.0 uF, X7R, 25V, 10%tol.; ComponentLink2Description: Datasheet; ComponentLink1Description: Manufacturer; ComponentLink3Description: Datasheet2; Family: Capacitor
footprint CAPC1206(3216)170_L (Chip Capacitor, Body 3.2x1.6mm, Height 1.7mm, IPC High Density)
footprint CAPC1206(3216)170_M (Chip Capacitor, Body 3.2x1.6mm, Height 1.7mm, IPC Low Density)
footprint CAPC1206(3216)170_N (Chip Capacitor, Body 3.2x1.6mm, Height 1.7mm, IPC Medium Density)
pins: 1, 2

## C1210_X7R_10V_47uF
designator C?  value 47 uF  (hidden comment: C1210_X7R_10V_47uF)
Ceramic Capacitor 1210 Size; Manufacturer: AVX; Manufacturer P/N: 1210ZC476KAT2A; Part: 47 uF, X7R, 10V, 10%tol.; ComponentLink2URL: https://www.mouser.com/datasheet/2/40/X7RDielectric-777024.pdf; ComponentLink2Description: Datasheet; ComponentLink1Description: Manufacturer; ComponentLink1URL: https://www.avx.com/; ComponentLink3Description: Datasheet2; Family: Capacitor
footprint CAPC1210(3225)100_M (Chip Capacitor, Body 3.2x2.5mm, Height 1mm, IPC Low Density)
pins: 1, 2

## C1210_X7R_25V_10uF
designator C?  value 10 uF  (hidden comment: C1210_X7R_25V_10uF)
Ceramic Capacitor 1210 Size; Manufacturer: AVX; Manufacturer P/N: 12103C106KAT2A; Part: 10 uF, X7R, 25V, 10%tol.; ComponentLink2URL: https://www.mouser.com/datasheet/2/40/X7RDielectric-777024.pdf; ComponentLink2Description: Datasheet; ComponentLink1Description: Manufacturer; ComponentLink1URL: https://www.avx.com/; ComponentLink3Description: Datasheet2; Family: Capacitor
footprint CAPC1210(3225)100_M (Chip Capacitor, Body 3.2x2.5mm, Height 1mm, IPC Low Density)
pins: 1, 2

## C1210_X7R_100V_0.1uF
designator C?  value 0.1 uF  (hidden comment: C1210_X7R_100V_0.1uF)
Ceramic Capacitor 1210 Size; Manufacturer: Johanson Dielectric; Manufacturer P/N: 101S41W104KV4T; Part: 0.1 uF, X7R, 100V, 10%tol.; ComponentLink2Description: Datasheet; ComponentLink1Description: Manufacturer; ComponentLink3Description: Datasheet2; Family: Capacitor
footprint CAPC1210(3225)100_M (Chip Capacitor, Body 3.2x2.5mm, Height 1mm, IPC Low Density)
pins: 1, 2

## C1210_X7R_100V_2.2uF
designator C?  value 2.2 uF  (hidden comment: C1210_X7R_100V_2.2uF)
Ceramic Capacitor 1210 Size; Manufacturer: Murata; Manufacturer P/N: GRM31CR61H106MA12L; Part: 2.2 uF, X7R, 100V, 10%tol.; ComponentLink2Description: Datasheet; ComponentLink1Description: Manufacturer; ComponentLink3Description: Datasheet2; Family: Capacitor
footprint CAPC1210(3225)100_M (Chip Capacitor, Body 3.2x2.5mm, Height 1mm, IPC Low Density)
pins: 1, 2

## C1210_X7R_100V_4.7uF
designator C?  value 4.7 uF  (hidden comment: C1210_X7R_100V_4.7uF)
Ceramic Capacitor 1210 Size; Manufacturer: AVX; Manufacturer P/N: 12101C475KAT2A; Part: 4.7 uF, X7R, 100V, 10%tol.; ComponentLink2URL: https://www.mouser.com/datasheet/2/40/X7RDielectric-777024.pdf; ComponentLink2Description: Datasheet; ComponentLink1Description: Manufacturer; ComponentLink1URL: https://www.avx.com/; ComponentLink3Description: Datasheet2; Family: Capacitor
footprint CAPC1210(3225)100_M (Chip Capacitor, Body 3.2x2.5mm, Height 1mm, IPC Low Density)
pins: 1, 2

## C1808_NPO_4kV_120pF_5%
designator C?  value 120 pF  (hidden comment: C1808_NPO_4kV_120pF_5%)
Ceramic Capacitor 1808 Size 5%; Manufacturer: JOHANSON DIELECTRICS; Manufacturer P/N: 402R29N121JV4T; Part: 120 pF, NPO, 4kV, 5% tol.; ComponentLink2URL: https://www2.mouser.com/datasheet/2/611/JTI-CAT-MLCC-HighQ-1101025.pdf; ComponentLink2Description: Datasheet; ComponentLink1Description: Manufacturer; ComponentLink1URL: http://www.johansondielectrics.com/; ComponentLink3Description: Datasheet2; Family: Capacitor
footprint CAPC1808(4520)215_M (Chip Capacitor, Body 4.5x2.0mm, Height 2.15mm, IPC Low Density)
pins: 1, 2

## C1808_NPO_5kV_10pF_5%
designator C?  value 10 pF  (hidden comment: C1808_NPO_5kV_10pF_5%)
Ceramic Capacitor 1808 Size 5%; Manufacturer: JOHANSON DIELECTRICS; Manufacturer P/N: 602R29N100JV4T; Part: 10 pF, NPO, 5kV, 5% tol.; ComponentLink2URL: https://www2.mouser.com/datasheet/2/611/JTI-CAT-MLCC-HighQ-1101025.pdf; ComponentLink2Description: Datasheet; ComponentLink1Description: Manufacturer; ComponentLink1URL: http://www.johansondielectrics.com/; ComponentLink3Description: Datasheet2; Family: Capacitor
footprint CAPC1808(4520)215_M (Chip Capacitor, Body 4.5x2.0mm, Height 2.15mm, IPC Low Density)
pins: 1, 2

## C1808_NPO_5kV_33pF_5%
designator C?  value 33 pF  (hidden comment: C1808_NPO_5kV_33pF_5%)
Ceramic Capacitor 1808 Size 5%; Manufacturer: JOHANSON DIELECTRICS; Manufacturer P/N: 602R29N330JV4T; Part: 33 pF, NPO, 5kV, 5% tol.; ComponentLink2URL: https://www2.mouser.com/datasheet/2/611/JTI-CAT-MLCC-HighQ-1101025.pdf; ComponentLink2Description: Datasheet; ComponentLink1Description: Manufacturer; ComponentLink1URL: http://www.johansondielectrics.com/; ComponentLink3Description: Datasheet2; Family: Capacitor
footprint CAPC1808(4520)215_M (Chip Capacitor, Body 4.5x2.0mm, Height 2.15mm, IPC Low Density)
pins: 1, 2

## C1812_PEN_100V_0.1uF
designator C?  value 0.1 uF  (hidden comment: C1812_PEN_100V_0.1uF)
Ceramic Capacitor 1812 Size; Manufacturer: Kemet; Manufacturer P/N: LDEEC3100KA5N00; Part: 0.1 uF, PEN, 100V, 10%tol.; ComponentLink2URL: http://www.mouser.com/ds/2/212/KEM_F3078_LDE-462598.pdf; ComponentLink2Description: Datasheet; ComponentLink1Description: Manufacturer; ComponentLink3Description: Datasheet2; Family: Capacitor
footprint C1812(4532)_N
pins: 1, 2

## C1812_X7R_500V_0.1uF
designator C?  value 0.1 uF  (hidden comment: C1812_X7R_500V_0.1uF)
Ceramic Capacitor 1812 Size; Manufacturer: Kemet; Manufacturer P/N: C1812C103MCRACTU; Part: 0.1 uF, X7R, 500V, 20%tol.; ComponentLink2Description: Datasheet; ComponentLink1Description: Manufacturer; ComponentLink3Description: Datasheet2; Family: Capacitor
footprint C1812(4532)_N
pins: 1, 2

## C2220_X7R_100V_10uF
designator C?  value 10 uF  (hidden comment: C2220_X7R_100V_10uF)
Ceramic Capacitor 2220 Size; Manufacturer: AVX; Manufacturer P/N: 22201C106MAT2A; Part: 10.0 uF, X7R, 100V, 20%tol.; ComponentLink2Description: Datasheet; ComponentLink1Description: Manufacturer; ComponentLink3Description: Datasheet2; Family: Capacitor
footprint CAPC2220(5750)115_N (Chip Capacitor, Body 5.7x5.0mm, Height 1.15mm, IPC Medium Density)
pins: 1, 2

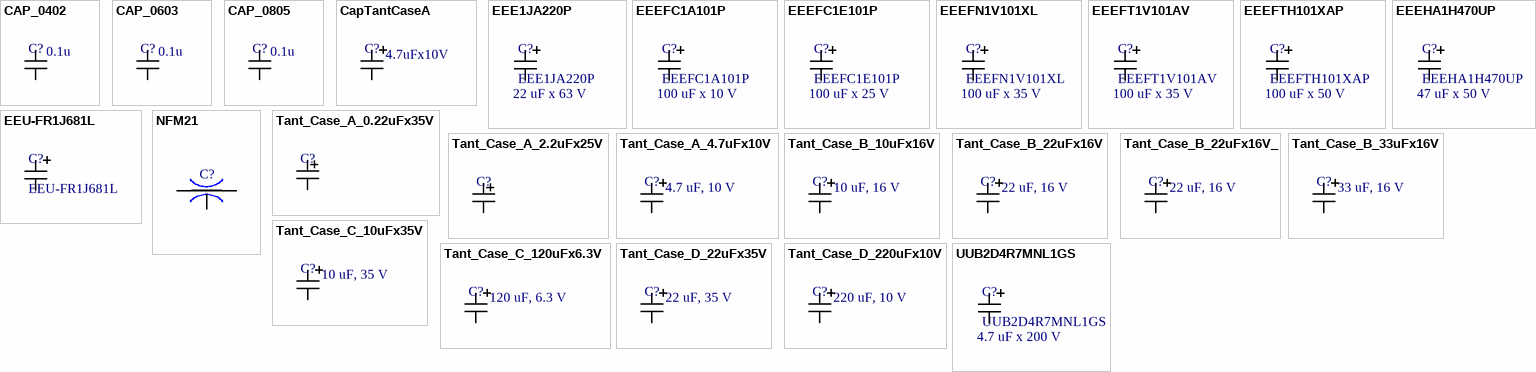
[diagram p5: symbols CAP_0402 to UUB2D4R7MNL1GS]

## CAP_0402
designator C?  value 0.1u  (hidden comment: CAP_0402)
Family: Capacitor
pins: 1, 2

## CAP_0603
designator C?  value 0.1u  (hidden comment: CAP_0603)
Family: Capacitor
pins: 1, 2

## CAP_0805
designator C?  value 0.1u  (hidden comment: CAP_0805)
Family: Capacitor
pins: 1, 2

## CapTantCaseA
designator C?, comment value 4.7uFx10V  (hidden comment: CAP_CASE_A)
Tantalum capacitors Case A; Family: Capacitor
pins: 1, 2

## EEE1JA220P
designator C?  value 22 uF x 63 V
Cap, Aluminum, 22uF, 63V, 20%; Manufacturer: Panasonic; ComponentLink1Description: Manufacturer; ComponentLink1URL: http://industrial.panasonic.com/ww/products/capacitors; ComponentLink2Description: Datasheet; ComponentLink2URL: http://www.mouser.com/ds/2/315/pic_vs_series-180467.pdf; Manufacturer P/N: EEE1JA220P; part: EEE1JA220P; Family: Capacitor
footprint Size_F_elecrolytic
pins: 1, 2

## EEEFC1A101P
designator C?  value 100 uF x 10 V
Cap, Aluminum, 100uF, 10V, 20%; Manufacturer: Panasonic; ComponentLink1Description: Manufacturer; ComponentLink1URL: http://industrial.panasonic.com/ww/products/capacitors; ComponentLink2Description: Datasheet; ComponentLink2URL: http://www.farnell.com/datasheets/1725489.pdf; Manufacturer P/N: EEEFC1A101P; part: EEEFC1A101P; Family: Capacitor
footprint Size-E_ELECTROLYTIC
pins: 1, 2

## EEEFC1E101P
designator C?  value 100 uF x 25 V
Cap, Aluminum, 100uF, 25V, 20%; Manufacturer: Panasonic; ComponentLink1Description: Manufacturer; ComponentLink1URL: http://industrial.panasonic.com/ww/products/capacitors; ComponentLink2Description: Datasheet; ComponentLink2URL: http://www.farnell.com/datasheets/1725489.pdf; Manufacturer P/N: EEEFC1E101P; part: EEEFC1E101P; Family: Capacitor
footprint Size_F_elecrolytic
pins: 1, 2

## EEEFN1V101XL
designator C?  value 100 uF x 35 V
Cap, Aluminum, 100uF, 35V, 20%; Manufacturer: Panasonic; ComponentLink1Description: Manufacturer; ComponentLink1URL: http://industrial.panasonic.com/ww/products/capacitors; ComponentLink2Description: Datasheet; ComponentLink2URL: http://www.farnell.com/datasheets/1725489.pdf; Manufacturer P/N: EEEFN1V101XL; part: EEEFN1V101XL; Family: Capacitor
pins: 1, 2

## EEEFT1V101AV
designator C?  value 100 uF x 35 V
Cap, Aluminum, 100uF, 35V, 20%; Manufacturer: Panasonic; ComponentLink1Description: Manufacturer; ComponentLink1URL: http://industrial.panasonic.com/ww/products/capacitors; ComponentLink2Description: Datasheet; ComponentLink2URL: http://www.farnell.com/datasheets/1725489.pdf; Manufacturer P/N: EEEFT1V101AV; part: EEEFT1V101AV; Family: Capacitor
footprint EEEFT1V101AV
pins: 1, 2